# Altium schematic symbol library L-07C27NJV6T.SchLib: 1 symbol
Pins are listed as number, name and electrical type; pins without a type are passive.

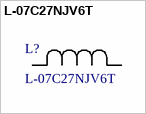
[diagram p0: symbol L-07C27NJV6T]

## L-07C27NJV6T
designator L?
No Description Available; Manufacturer_Name: Johanson Technology; Copyright: Copyright (C) 2026 Ultra Librarian. All rights reserved.; Manufacturer_Part_Number: L-07C27NJV6T
footprint IND_L-0402_JOT
pins: 1, 2